# Altium schematic symbol library Jumper 12.SchLib: 1 symbol
Pins are listed as number, name and electrical type; pins without a type are passive.

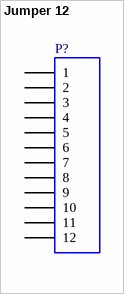
[diagram p0: symbol Jumper 12]

## Jumper 12
designator P?
Jumper / link header, 12-Pin
pins: 1, 2, 3, 4, 5, 6, 7, 8, 9, 10, 11, 12